# Altium footprint library CAP.PcbLib: 45 footprints (part 1 of 3)
Each footprint in its own frame and in the unit in brackets; x right, y up, seen from the top. Pads: shape width x height; smd on the part's side, far side on the other; paste and mask are expansions set on the pad; w line width, h text height; cw(c..) or ccw(c..) is an arc to the next point about the centre after c.
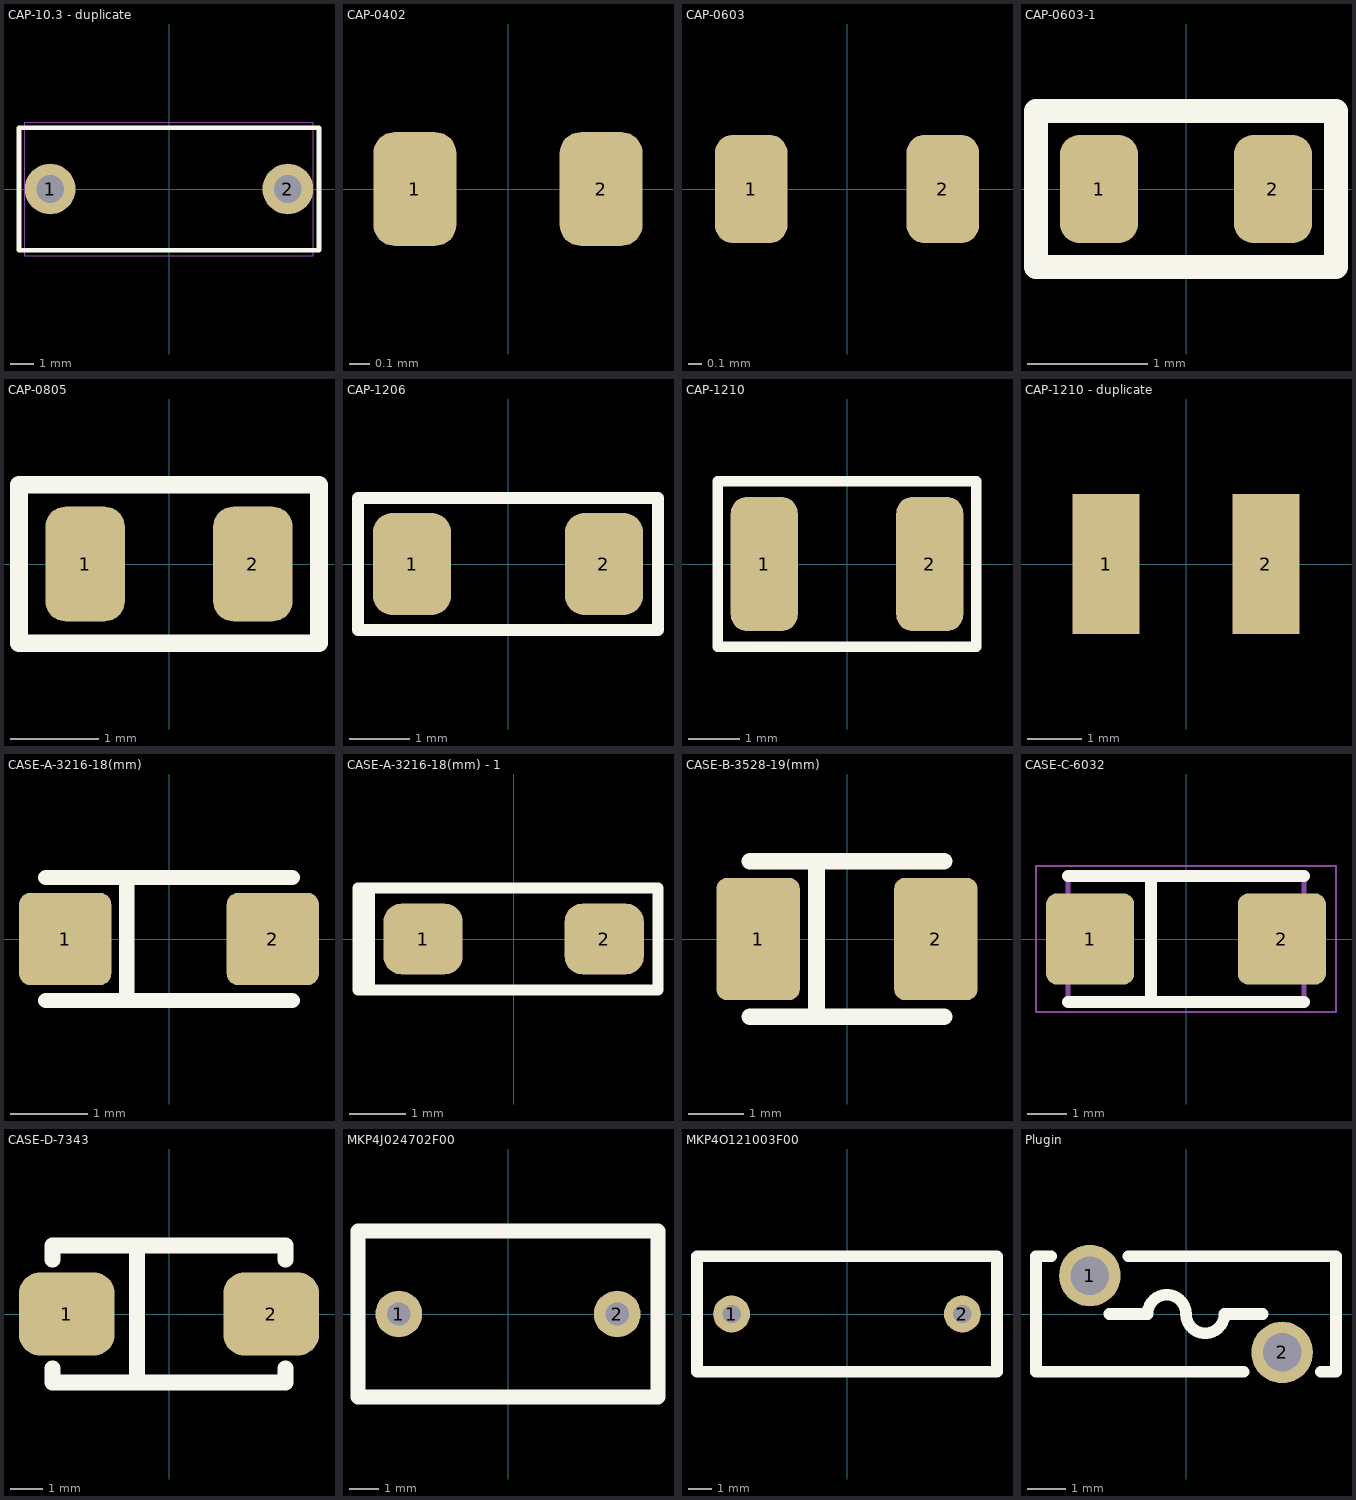
[diagram p0: the footprints below, top view; thin cyan lines are the x and y axes]

## CAP-10.3 - duplicate [mm]
pads (2):
  round 2.2 hole 1.2: 1(-5.15,0) 2(5.15,0)
Top Overlay:
  lines w0.2: -6.5,-2.65 6.5,-2.65 6.5,2.65 -6.5,2.65 -6.5,-2.65
3D:
  lines w0.127: -6.477,-2.65 -6.477,2.65 6.477,2.65 6.477,-2.65 -6.477,-2.65
Mechanical 15:
  lines w0.05: -6.25,-2.9 6.25,-2.9 6.25,2.9 -6.25,2.9 -6.25,-2.9
3D body "ECQE6223KF.step": height 11.5, standoff -19, extent -6,-2.65 6,2.65

## CAP-0402 [mm]
height 0.4
pads (2):
  rrect50% 0.4x0.55 smd: 1(-0.45,0) 2(0.45,0)
3D body "step_temp.STEP": height 0.55, standoff 0, extent -0.5,-0.25 0.5,0.25

## CAP-0603 [mm]
pads (2):
  rrect50% 0.55x0.82 smd: 1(-0.725,0) 2(0.725,0)
3D body "C0603.stp": height 0.8, standoff 0, extent -0.8,-0.4 0.8,0.4

## CAP-0603-1 [mm]
pads (2):
  rrect50% 0.65x0.9 smd: 1(-0.725,0) 2(0.725,0)
Top Overlay:
  lines w0.2: -1.25,-0.65 1.25,-0.65 1.25,0.65 -1.25,0.65 -1.25,-0.65
3D body "VJ0603D100KLCAP.STEP": height 0.8, standoff 0, extent -0.8,-0.47 0.8,0.47

## CAP-0805 [mm]
pads (2):
  rrect50% 0.9x1.3 smd: 1(-0.95,0) 2(0.95,0)
Top Overlay:
  lines w0.2: -1.7,-0.9 -1.7,0.9 1.7,0.9 1.7,-0.9 -1.7,-0.9
3D body "step_temp.STEP": height 1.46, standoff 0.01, extent -1,-0.625 1,0.625

## CAP-1206 [mm]
pads (2):
  rrect50% 1.3x1.7 smd: 1(-1.6,0) 2(1.6,0)
Top Overlay:
  lines w0.2: -2.5,-1.1 -2.5,1.1 2.5,1.1 2.5,-1.1 -2.5,-1.1
3D body "C1206D.STEP": height 1.25, standoff 0, extent -1.6,-0.8 1.6,0.8

## CAP-1210 [mm]
pads (2):
  rrect50% 1.3x2.6 smd: 1(-1.6,0) 2(1.6,0)
Top Overlay:
  lines w0.2: -2.5,-1.6 2.5,-1.6 2.5,1.6 -2.5,1.6 -2.5,-1.6
3D body "C1210C106K6PAC7800.STEP": height 1.9, standoff 0, extent -1.6,-1.25 1.6,1.25

## CAP-1210 - duplicate [mm]
pads (2):
  rect 1.24x2.6 smd: 1(-1.485,0) 2(1.485,0)
3D body "C1210C106K6PAC7800.STEP": height 1.9, standoff 0, extent -1.6,-1.25 1.6,1.25

## CASE-A-3216-18(mm) [mm]
pads (2):
  rrect25% 1.2x1.2 smd: 1(-1.35,0) 2(1.35,0)
Top Overlay:
  lines w0.2: -1.6,-0.8 1.6,-0.8 ; -1.6,0.8 1.6,0.8 ; -0.55,-0.8 -0.55,0.8
3D body "TAJA105K016RNJ--3DModel-STEP-269445.STEP": height 1.8, standoff 0, extent -1.6,-0.8 1.6,0.8

## CASE-A-3216-18(mm) - 1 [mm]
pads (2):
  rrect50% 1.4x1.25 smd: 1(-1.6,0) 2(1.6,0)
Top Overlay:
  lines w0.2: -2.55,0.9 -2.55,-0.9 ; -2.55,-0.9 2.55,-0.9 2.55,0.9 -2.75,0.9 -2.75,-0.9 -2.55,-0.9
3D body "User Library-CAP_TAN_C3216_1206.STEP": height 1.8, standoff 0, extent -1.7,-0.9 1.7,0.9

## CASE-B-3528-19(mm) [mm]
pads (2):
  rrect25% 1.5x2.2 smd mask+0.15: 1(-1.6,0) 2(1.6,0)
Top Overlay:
  lines w0.3: -1.75,-1.4 1.75,-1.4 ; -1.75,1.4 1.75,1.4 ; -0.55,-1.4 -0.55,1.4
3D body "TAJB475K025RNJ--3DModel-STEP-269445.STEP": height 2.1, standoff 0, extent -1.75,-1.4 1.75,1.4

## CASE-C-6032 [mm]
pads (2):
  rrect25% 2.24x2.32 smd mask+0.15: 1(-2.435,0) 2(2.435,0)
Top Overlay:
  lines w0.3: -3,-1.6 3,-1.6 ; -3,1.6 3,1.6 ; -0.889,-1.524 -0.889,1.524
3D:
  lines w0.127: -3,-1.6 -3,1.6 3,1.6 3,-1.6 -3,-1.6
Mechanical 15:
  lines w0.05: -3.81,-1.85 -3.805,1.85 3.81,1.85 3.81,-1.85 -3.81,-1.85
3D body "TAJC_AVX.step": height 2.85, standoff 0, extent -3.099,-1.702 3.099,1.702

## CASE-D-7343 [mm]
pads (2):
  rrect50% 3x2.6 smd mask+0.15: 1(-3.2,0) 2(3.2,0)
Top Overlay:
  lines w0.5: -3.65,-1.7 -3.65,-2.15 3.65,-2.15 3.65,-1.7 ; -3.65,1.7 -3.65,2.15 3.65,2.15 3.65,1.7 ; -1,-2.15 -1,2.15
3D body "D 7343-31.step": height 2.81, standoff 0, extent -3.65,-2.15 3.65,2.15

## MKP4J024702F00 [mm]
pads (2):
  round 1.6 hole 0.8: 1(-3.75,0) 2(3.75,0)
Top Overlay:
  lines w0.5: -5.15,-2.85 5.15,-2.85 5.15,2.85 -5.15,2.85 -5.15,-2.85
3D body "MKP4_05_7WX12_5HX10_3L_WIM.step": height 12.5, standoff -4.37, extent -5.156,-2.84 5.156,2.85

## MKP4O121003F00 [mm]
pads (2):
  round 1.6 hole 0.8: 1(-5,0) 2(5,0)
Top Overlay:
  lines w0.5: -6.5,-2.5 6.5,-2.5 6.5,2.5 -6.5,2.5 -6.5,-2.5
3D body "MKP4_050WX110HX130L_WIM.step": height 11, standoff -4.37, extent -6.502,-2.504 6.502,2.5

## Plugin [mm]
pads (2):
  round 1.6 hole 1 mask+0.2: 1(-2.5,1) 2(2.5,-1)
Top Overlay:
  lines w0.3: -3.5,1.5 -3.9,1.5 -3.9,-1.5 1.5,-1.5 ; -1.998,0.006 -1.992,0 -1,0 cw(c-0.5,0) 0,0 ccw(c0.5,0) 1,0 1.996,0 ; -1.5,1.5 3.9,1.5 3.9,-1.5 3.5,-1.5
3D body "FUSE-RXEF025.stp": height 3.07, standoff -12.7, extent -3.697,-1.436 3.695,1.436